# Altium footprint library ARDUINO_UNO_REV3_DEVELOPMENT_BOARD.PcbLib: 2 footprints
Each footprint in its own frame and in the unit in brackets; x right, y up, seen from the top. Pads: shape width x height; smd on the part's side, far side on the other; paste and mask are expansions set on the pad; w line width, h text height; cw(c..) or ccw(c..) is an arc to the next point about the centre after c.
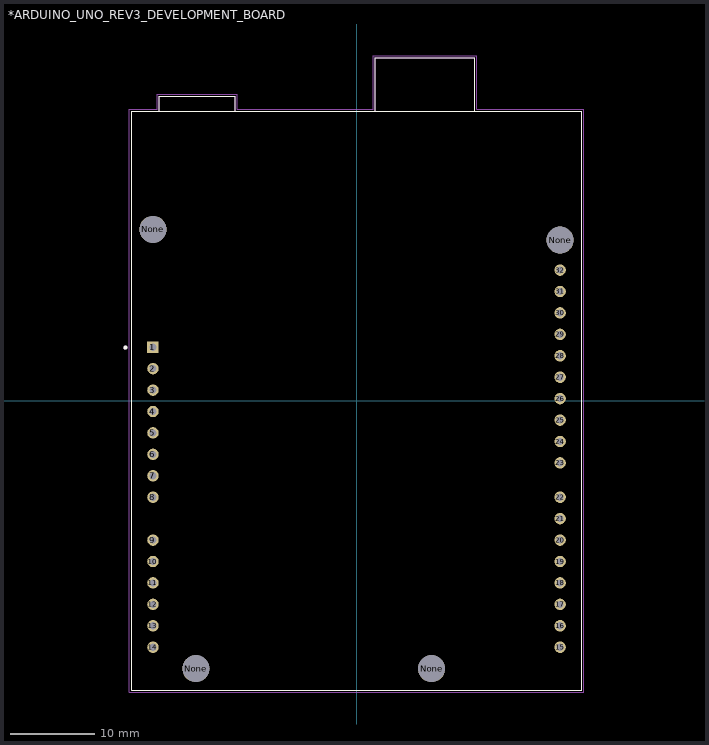
[diagram p0: the footprints below, top view; thin cyan lines are the x and y axes]

## *ARDUINO_UNO_REV3_DEVELOPMENT_BOARD [mm]
pads (36):
  rect 1.358x1.358 hole 0.85: 1(-24.13,6.35)
  round 1.358 hole 0.85: 2(-24.13,3.81) 3(-24.13,1.27) 4(-24.13,-1.27) 5(-24.13,-3.81) 6(-24.13,-6.35) 7(-24.13,-8.89) 8(-24.13,-11.43) 9(-24.13,-16.51) 10(-24.13,-19.05) 11(-24.13,-21.59) 12(-24.13,-24.13) 13(-24.13,-26.67) 14(-24.13,-29.21) 15(24.13,-29.21) 16(24.13,-26.67) 17(24.13,-24.13) 18(24.13,-21.59) 19(24.13,-19.05) 20(24.13,-16.51) 21(24.13,-13.97) 22(24.13,-11.43) 23(24.13,-7.366) 24(24.13,-4.826) 25(24.13,-2.286) 26(24.13,0.254) 27(24.13,2.794) 28(24.13,5.334) 29(24.13,7.874) 30(24.13,10.414) 31(24.13,12.954) 32(24.13,15.494)
  round 3.2 hole 3.2 unplated: None(-24.13,20.32) None(-19.05,-31.75) None(8.89,-31.75) None(24.13,19.05)
Top Overlay:
  circle w0.24: c-27.4,6.3 r0.12
  lines w0.127: -23.37,34.29 -23.37,36.1 -14.378,36.1 -14.378,34.29 ; -23.37,34.29 -14.378,34.29 ; -23.37,34.29 -26.67,34.29 -26.67,-34.29 26.67,-34.29 26.67,34.29 14.02,34.29 ; -14.378,34.29 2.22,34.29 ; 2.22,34.29 2.22,40.64 14.02,40.64 14.02,34.29 ; 2.22,34.29 14.02,34.29
Mechanical 4:
  circle w0.24: c-27.4,6.3 r0.12
  circle w0.24: c-27.4,6.3 r0.12
  lines w0.127: -26.67,-34.29 -26.67,34.29 ; -26.67,-34.29 26.67,-34.29 ; -26.67,-34.29 -26.67,34.29 ; -26.67,-34.29 26.67,-34.29 ; -26.67,34.29 -23.37,34.29 ; -26.67,34.29 -23.37,34.29 ; -23.37,34.29 -23.37,36.1 ; -23.37,34.29 -14.378,34.29 ; -23.37,34.29 -23.37,36.1 ; -23.37,34.29 -14.378,34.29 ; -23.37,36.1 -14.378,36.1 ; -23.37,36.1 -14.378,36.1 ; -14.378,34.29 -14.378,36.1 ; -14.378,34.29 2.22,34.29 ; -14.378,34.29 -14.378,36.1 ; -14.378,34.29 2.22,34.29 ; 2.22,34.29 2.22,40.64 ; 2.22,34.29 14.02,34.29 ; 2.22,34.29 2.22,40.64 ; 2.22,34.29 14.02,34.29 ; 2.22,40.64 14.02,40.64 ; 2.22,40.64 14.02,40.64 ; 14.02,34.29 14.02,40.64 ; 14.02,34.29 26.67,34.29 ; 14.02,34.29 14.02,40.64 ; 14.02,34.29 26.67,34.29 ; 26.67,-34.29 26.67,34.29 ; 26.67,-34.29 26.67,34.29
Mechanical 16:
  lines w0.05: -26.92,-34.54 -26.92,34.54 -23.62,34.54 -23.62,36.35 -14.128,36.35 -14.128,34.54 1.97,34.54 1.97,40.89 14.27,40.89 14.27,34.54 26.92,34.54 26.92,-34.54 -26.92,-34.54

## PCBComponent_1 [mil]